# EAGLE library part FT232RQ (library ICs)
FT232RQ UART TTL to USB converter
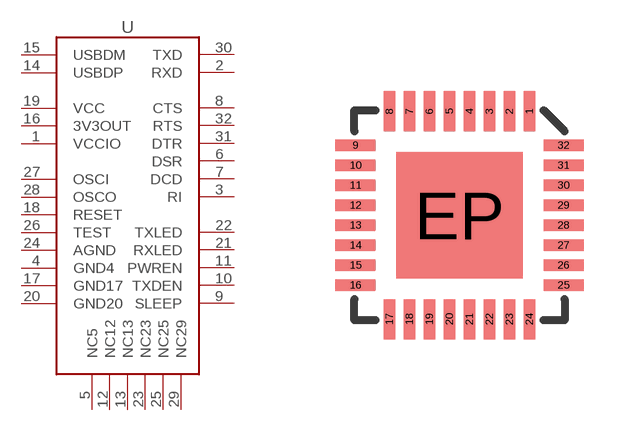
[diagram p11: symbol with the pads of QFN-32; footprint QFN-32]

Designator prefix -

## FT232RQ  [QFN-32]
1  VCCIO  pwr
2  RXD  in
3  RI  in
4  GND4  pwr
5  NC5
6  DSR  in
7  DCD  in
8  CTS  in
9  SLEEP  in
10  TXDEN  in
11  PWREN  in
12  NC12
13  NC13
14  USBDP
15  USBDM
16  3V3OUT  out
17  GND17  pwr
18  RESET  in
19  VCC  pwr
20  GND20  pwr
21  RXLED  in
22  TXLED  in
23  NC23
24  AGND  pwr
25  NC25
26  TEST  in
27  OSCI  in
28  OSCO  out
29  NC29
30  TXD  out
31  DTR  out
32  RTS  out

## Footprint QFN-32 (pad centres in mm)
QFN 32-Pin w/ Thermal Pad - 5.0 x 5.0 mm
smd 0.285 x 1: 1 1.75,2.6; 2 1.25,2.6; 3 0.75,2.6; 4 0.25,2.6; 5 -0.25,2.6; 6 -0.75,2.6; 7 -1.25,2.6; 8 -1.75,2.6; 17 -1.75,-2.6; 18 -1.25,-2.6; 19 -0.75,-2.6; 20 -0.25,-2.6; 21 0.25,-2.6; 22 0.75,-2.6; 23 1.25,-2.6; 24 1.75,-2.6
smd 1 x 0.285: 9 -2.6,1.75; 10 -2.6,1.25; 11 -2.6,0.75; 12 -2.6,0.25; 13 -2.6,-0.25; 14 -2.6,-0.75; 15 -2.6,-1.25; 16 -2.6,-1.75; 25 2.6,-1.75; 26 2.6,-1.25; 27 2.6,-0.75; 28 2.6,-0.25; 29 2.6,0.25; 30 2.6,0.75; 31 2.6,1.25; 32 2.6,1.75
smd 3.15 x 3.15: EP 0,0